# Altium schematic symbol library 20SVPF56MX.SchLib: 1 symbol
Pins are listed as number, name and electrical type; pins without a type are passive.

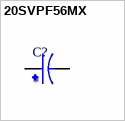
[diagram p0: symbol 20SVPF56MX]

## 20SVPF56MX
designator C?
MP: 20SVPF56MX; MF: {'manufacturer': u'Panasonic'}; Price: None; Availability: Unavailable; Value: *; Package: None
footprint CAP_20SVPF56MX
pins: 1, 2